# EAGLE library part IC_LT1013 (library psas)
Dual Single Supply Precision OpAmp
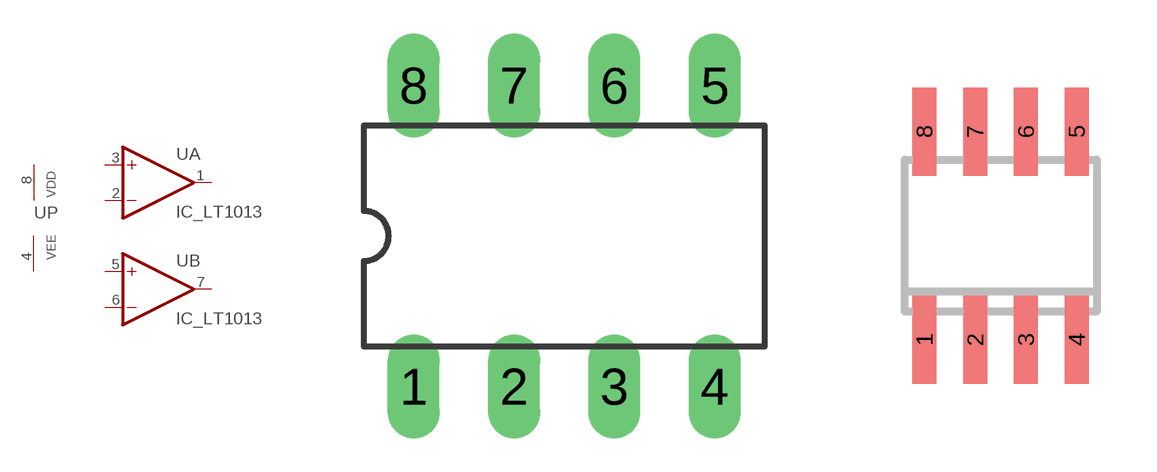
[diagram p10: symbol with the pads of DIL08; footprints DIL08, SO8]

Designator prefix -; gates A=OPAMP B=OPAMP P=VDD+VEE

## IC_LT1013N  [DIL08]
1  A:OUT  out
2  A:-IN  in
3  A:+IN  in
4  P:VEE  pwr
5  B:+IN  in
6  B:-IN  in
7  B:OUT  out
8  P:VDD  pwr

## IC_LT1013S  [SO8]
1  A:+IN  in
2  P:VEE  pwr
3  B:+IN  in
4  B:-IN  in
5  B:OUT  out
6  P:VDD  pwr
7  A:OUT  out
8  A:-IN  in

## Footprint DIL08 (pad centres in mm)
Dual In Line
drill 0.813 long: 1 -3.81,-3.81; 2 -1.27,-3.81; 3 1.27,-3.81; 4 3.81,-3.81; 5 3.81,3.81; 6 1.27,3.81; 7 -1.27,3.81; 8 -3.81,3.81

## Footprint SO8 (pad centres in mm)
smd 0.6 x 2.2: 1 -1.905,-2.6; 2 -0.635,-2.6; 3 0.635,-2.6; 4 1.905,-2.6; 5 1.905,2.6; 6 0.635,2.6; 7 -0.635,2.6; 8 -1.905,2.6